# EAGLE library part 43045-08_S (library con-molex-micro-fit)
HEADER
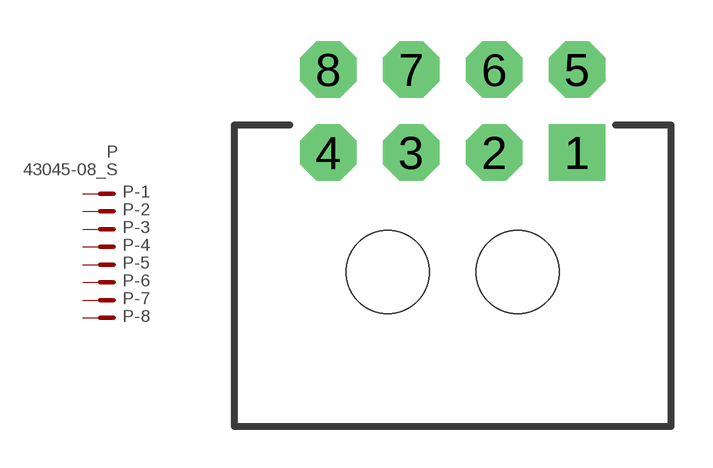
[diagram p11: symbol with the pads of 43045-08; footprint 43045-08]

Designator prefix P; gates -1=P-NV -2=P-N -3=P-N -4=P-N -5=P-N -6=P-N -7=P-N -8=P-N

## 43045-08_S  [43045-08]
1  -1:P  pas
2  -2:P  pas
3  -3:P  pas
4  -4:P  pas
5  -5:P  pas
6  -6:P  pas
7  -7:P  pas
8  -8:P  pas

## Footprint 43045-08 (pad centres in mm)
HEADER
drill 1.016 pad 2.032 square: 1 4.5,0
drill 1.016 pad 2.032 octagon: 2 1.5,0; 3 -1.5,0; 4 -4.5,0; 5 4.5,3; 6 1.5,3; 7 -1.5,3; 8 -4.5,3
hole 3 at -2.35,-4.32
hole 3 at 2.35,-4.32